# EAGLE library part L78L33ACD13TR (library ST Microelectronics)
Positive voltage regulators
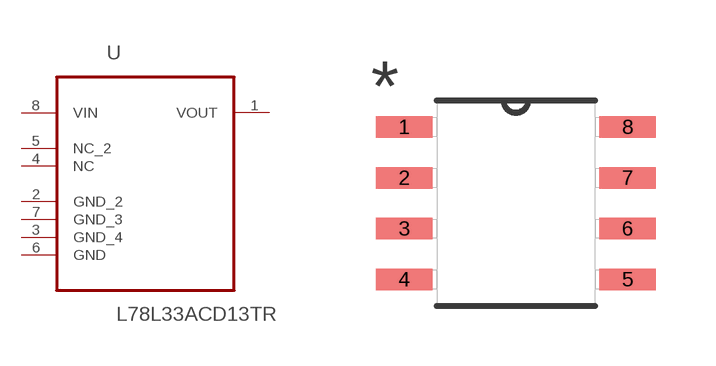
[diagram p63: symbol with the pads of SOIC127P600X175-8N; footprint SOIC127P600X175-8N]

Designator prefix U

## L78L33ACD13TR (MPN: L78L33ACD13TR; OC_FARNELL: 1564317; OC_NEWARK: 89K1360; PACKAGE: SOIC-8; SUPPLIER: STMICROELECTRONICS)  [SOIC127P600X175-8N]
1  VOUT  out
2  GND_2  pas
3  GND_4  pas
4  NC  nc
5  NC_2  nc
6  GND  pas
7  GND_3  pas
8  VIN  pwr

## Footprint SOIC127P600X175-8N (pad centres in mm)
smd 1.422 x 0.533: 1 -2.794,1.905; 2 -2.794,0.635; 3 -2.794,-0.635; 4 -2.794,-1.905; 5 2.794,-1.905; 6 2.794,-0.635; 7 2.794,0.635; 8 2.794,1.905